# EAGLE library part CAS25-NP (library CAS)
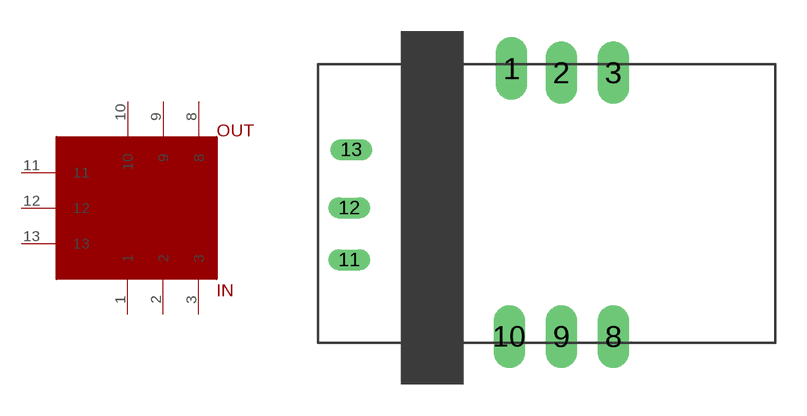
[diagram p0: symbol with the pads of CAS; footprint CAS]

Designator prefix -

## CAS25-NP  [CAS]
1  1
2  2
3  3
8  8
9  9
10  10
11  11
12  12
13  13

## Footprint CAS (pad centres in mm)
drill 1 long: 1 9.3,13.2; 2 11.7,13; 3 14.2,13; 8 14.2,0.3; 9 11.7,0.3; 10 9.2,0.3
drill 0.5 long: 11 1.5,4; 12 1.5,6.5; 13 1.6,9.3